# Altium integrated library Разное.IntLib: 9 symbols
Pins are listed as number, name and electrical type; pins without a type are passive.

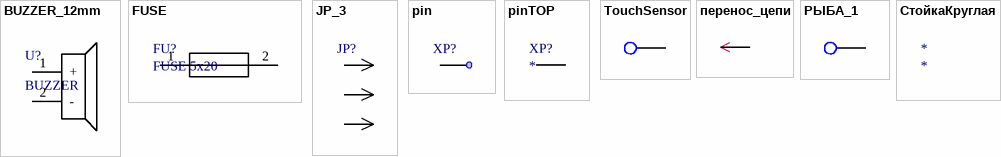
[diagram p0: symbols BUZZER_12mm to СтойкаКруглая]

## BUZZER_12mm
designator U?, comment BUZZER
footprint BUZER_12mm
footprint BUZER_14.1x7.5
pins: 1 +, 2 -

## FUSE
designator FU?, comment FUSE 5x20
footprint FUSE_5x20
pins: 1, 2

## JP_3
designator JP?  (value not drawn)
footprint PLS-3
pins: 1, 2, 3

## pin
designator XP?  (value not drawn)
footprint PIN
footprint PIN1.5x2.5
footprint PINTOP_TestPoint
footprint PIN2.5x4
pins: 1

## pinTOP
designator XP?
footprint pin
pins: 1

## TouchSensor
designator X?, comment **  (value not drawn)
Rem: *; Package: *; Value: *; Tolerance: *; Power/Voltage: *; TKE: *; ManufacturerPartNumber: *; Manufacturer: *; Quantity: *; Примечание: *
footprint ToushSensor
footprint ToushSensor_2
pins: 1

## перенос_цепи
designator *  (value not drawn)  (graphical)
перенос_цепи
pins: 1

## РЫБА_1
designator X?, comment **  (value not drawn)
Rem: *; Package: *; Value: *; Tolerance: *; Power/Voltage: *; TKE: *; ManufacturerPartNumber: *; Manufacturer: *; Quantity: *; Примечание: *
pins: 1

## СтойкаКруглая
designator *
footprint Стойка Круглая